# EAGLE library part MCP2551 (library IC_Interface)
High - Speed CAN Transceiver Datasheet <http://ww1.microchip.com/downloads/en/devicedoc/20001667g.pdf>
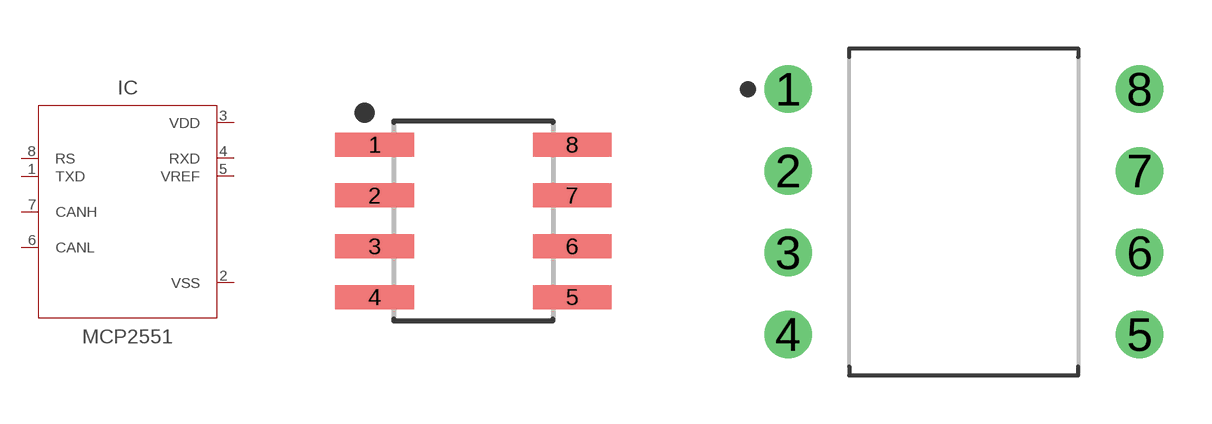
[diagram p7: symbol with the pads of SOIC127P599X175-8; footprints SOIC127P599X175-8, DIP1092W55P254L949H533Q8B]

Designator prefix IC

## MCP2551_SOIC (CATEGORY: IC_Interface; MANUFACTURER: Microchip; MPN: MCP2551-E/SN; OPERATING_TEMP: -40 to +125 °C; PART_STATUS: Active; SUB-CATEGORY: Transceiver; VALUE: MCP2551)  [SOIC127P599X175-8]
1  TXD  in
2  VSS  pwr
3  VDD  pwr
4  RXD  out
5  VREF  out
6  CANL
7  CANH
8  RS  in

## MCP2551_DIP (CATEGORY: IC_Interface; MANUFACTURER: Microchip; MPN: MCP2551-I/SN; OPERATING_TEMP: -40 to +85 °C; PART_STATUS: Active; ROHS_COMPLIANT: RoHS3 Compliant; VALUE: MCP2551)  [DIP1092W55P254L949H533Q8B]
Pads as for SOIC127P599X175-8

## Footprint SOIC127P599X175-8 (pad centres in mm)
8-SOIC, 1.27 mm pitch, 6.00 mm span, 4.91 X 3.90 X 1.75 mm body 8-pin SOIC package with 1.27 mm pitch, 6.00 mm span with body size 4.91 X 3.90 X 1.75 mm
smd 1.967 x 0.599: 1 -2.469,1.905; 2 -2.469,0.635; 3 -2.469,-0.635; 4 -2.469,-1.905; 5 2.469,-1.905; 6 2.469,-0.635; 7 2.469,0.635; 8 2.469,1.905

## Footprint DIP1092W55P254L949H533Q8B (pad centres in mm)
8-DIP, 2.54 mm (0.10 in) pitch, 10.92 mm (0.43 in) span, 9.50 X 6.60 X 5.33 mm body 8-pin DIP package with 2.54 mm (0.10 in) pitch, 10.92 mm (0.43 in) span with body size 9.50 X 6.60 X 5.33 mm
drill 0.876 pad 1.476: 1 -5.461,3.81; 2 -5.461,1.27; 3 -5.461,-1.27; 4 -5.461,-3.81; 5 5.461,-3.81; 6 5.461,-1.27; 7 5.461,1.27; 8 5.461,3.81